# EAGLE library part TUSB7340RKMR (library ds_ic_peripherals)
SuperSpeed USB 3.0 4–port xHCI host controller
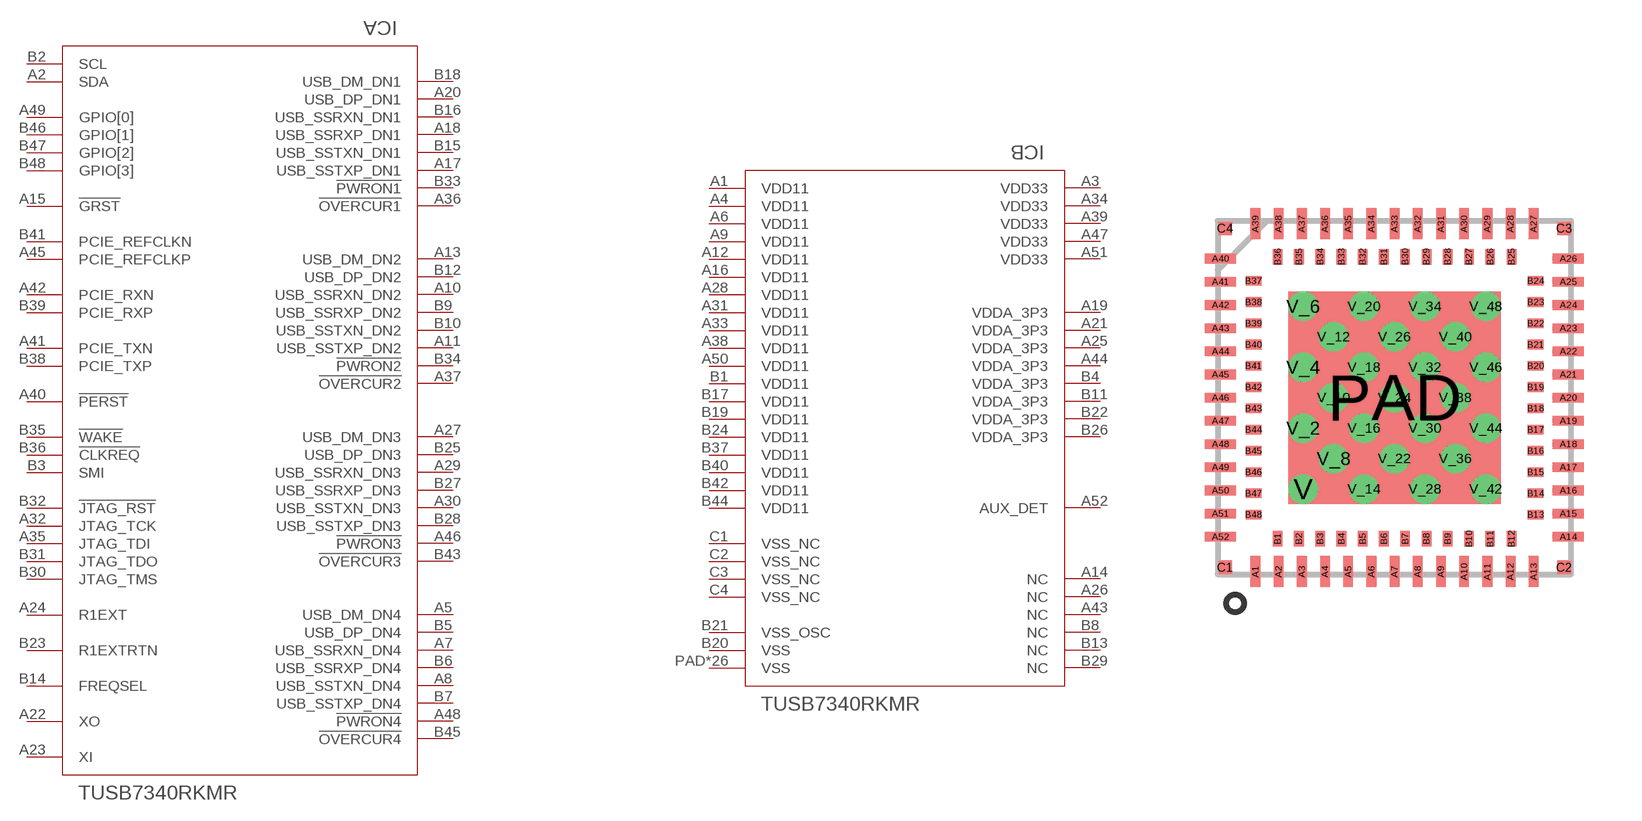
[diagram p70: symbol with the pads of RKM100_5P5X5P5; footprint RKM100_5P5X5P5]

Designator prefix IC; gates A=TUSB7340 B=TUSB7340_PWR

## TUSB7340RKMR (DESCRIPTION: HostController WQFN-100-MR(9x9) USB Converters ROHS; LCSC_PART: C6567238)  [RKM100_5P5X5P5]
A1  B:VDD11  pwr
A2  A:SDA
A3  B:VDD33  pwr
A4  B:VDD11  pwr
A5  A:USB_DM_DN4
A6  B:VDD11  pwr
A7  A:USB_SSRXN_DN4  in
A8  A:USB_SSTXN_DN4  out
A9  B:VDD11  pwr
A10  A:USB_SSRXN_DN2  in
A11  A:USB_SSTXP_DN2  out
A12  B:VDD11  pwr
A13  A:USB_DM_DN2
A14  B:NC  nc
A15  A:!GRST  in
A16  B:VDD11  pwr
A17  A:USB_SSTXP_DN1  out
A18  A:USB_SSRXP_DN1  in
A19  B:VDDA_3P3  pwr
A20  A:USB_DP_DN1
A21  B:VDDA_3P3  pwr
A22  A:XO  out
A23  A:XI  in
A24  A:R1EXT
A25  B:VDDA_3P3  pwr
A26  B:NC  nc
A27  A:USB_DM_DN3
A28  B:VDD11  pwr
A29  A:USB_SSRXN_DN3  in
A30  A:USB_SSTXN_DN3  out
A31  B:VDD11  pwr
A32  A:JTAG_TCK  in
A33  B:VDD11  pwr
A34  B:VDD33  pwr
A35  A:JTAG_TDI  in
A36  A:!OVERCUR1  in
A37  A:!OVERCUR2  in
A38  B:VDD11  pwr
A39  B:VDD33  pwr
A40  A:!PERST  in
A41  A:PCIE_TXN  out
A42  A:PCIE_RXN  in
A43  B:NC  nc
A44  B:VDDA_3P3  pwr
A45  A:PCIE_REFCLKP  in
A46  A:!PWRON3  out
A47  B:VDD33  pwr
A48  A:!PWRON4  out
A49  A:GPIO[0]
A50  B:VDD11  pwr
A51  B:VDD33  pwr
A52  B:AUX_DET  in
B1  B:VDD11  pwr
B2  A:SCL
B3  A:SMI  out
B4  B:VDDA_3P3  pwr
B5  A:USB_DP_DN4
B6  A:USB_SSRXP_DN4  in
B7  A:USB_SSTXP_DN4  out
B8  B:NC  nc
B9  A:USB_SSRXP_DN2  in
B10  A:USB_SSTXN_DN2  out
B11  B:VDDA_3P3  pwr
B12  A:USB_DP_DN2
B13  B:NC  nc
B14  A:FREQSEL  in
B15  A:USB_SSTXN_DN1  out
B16  A:USB_SSRXN_DN1  in
B17  B:VDD11  pwr
B18  A:USB_DM_DN1
B19  B:VDD11  pwr
B20  B:VSS  pwr
B21  B:VSS_OSC  pwr
B22  B:VDDA_3P3  pwr
B23  A:R1EXTRTN
B24  B:VDD11  pwr
B25  A:USB_DP_DN3
B26  B:VDDA_3P3  pwr
B27  A:USB_SSRXP_DN3  in
B28  A:USB_SSTXP_DN3  out
B29  B:NC  nc
B30  A:JTAG_TMS  in
B31  A:JTAG_TDO  out
B32  A:!JTAG_RST  in
B33  A:!PWRON1  out
B34  A:!PWRON2  out
B35  A:!WAKE  out
B36  A:!CLKREQ  out
B37  B:VDD11  pwr
B38  A:PCIE_TXP  out
B39  A:PCIE_RXP  in
B40  B:VDD11  pwr
B41  A:PCIE_REFCLKN  in
B42  B:VDD11  pwr
B43  A:!OVERCUR3  in
B44  B:VDD11  pwr
B45  A:!OVERCUR4  in
B46  A:GPIO[1]
B47  A:GPIO[2]
B48  A:GPIO[3]
C1  B:VSS_NC  pwr
C2  B:VSS_NC  pwr
C3  B:VSS_NC  pwr
C4  B:VSS_NC  pwr
PAD  B:VSS  pwr
V  B:VSS  pwr
V_2  B:VSS  pwr
V_4  B:VSS  pwr
V_6  B:VSS  pwr
V_8  B:VSS  pwr
V_10  B:VSS  pwr
V_12  B:VSS  pwr
V_14  B:VSS  pwr
V_16  B:VSS  pwr
V_18  B:VSS  pwr
V_20  B:VSS  pwr
V_22  B:VSS  pwr
V_24  B:VSS  pwr
V_26  B:VSS  pwr
V_28  B:VSS  pwr
V_30  B:VSS  pwr
V_32  B:VSS  pwr
V_34  B:VSS  pwr
V_36  B:VSS  pwr
V_38  B:VSS  pwr
V_40  B:VSS  pwr
V_42  B:VSS  pwr
V_44  B:VSS  pwr
V_46  B:VSS  pwr
V_48  B:VSS  pwr

## Footprint RKM100_5P5X5P5 (pad centres in mm)
smd 0.25 x 0.8: A1 -3.6,-4.5; A2 -3,-4.5; A3 -2.4,-4.5; A4 -1.8,-4.5; A5 -1.2,-4.5; A6 -0.6,-4.5; A7 0,-4.5; A8 0.6,-4.5; A9 1.2,-4.5; A10 1.8,-4.5; A11 2.4,-4.5; A12 3,-4.5; A13 3.6,-4.5; A27 3.6,4.5; A28 3,4.5; A29 2.4,4.5; A30 1.8,4.5; A31 1.2,4.5; A32 0.6,4.5; A33 0,4.5; A34 -0.6,4.5; A35 -1.2,4.5; A36 -1.8,4.5; A37 -2.4,4.5; A38 -3,4.5; A39 -3.6,4.5
smd 0.8 x 0.25: A14 4.5,-3.6; A15 4.5,-3; A16 4.5,-2.4; A17 4.5,-1.8; A18 4.5,-1.2; A19 4.5,-0.6; A20 4.5,0; A21 4.5,0.6; A22 4.5,1.2; A23 4.5,1.8; A24 4.5,2.4; A25 4.5,3; A26 4.5,3.6; A40 -4.5,3.6; A41 -4.5,3; A42 -4.5,2.4; A43 -4.5,1.8; A44 -4.5,1.2; A45 -4.5,0.6; A46 -4.5,0; A47 -4.5,-0.6; A48 -4.5,-1.2; A49 -4.5,-1.8; A50 -4.5,-2.4; A51 -4.5,-3; A52 -4.5,-3.6
smd 0.25 x 0.4: B1 -3.025,-3.65; B2 -2.475,-3.65; B3 -1.925,-3.65; B4 -1.375,-3.65; B5 -0.825,-3.65; B6 -0.275,-3.65; B7 0.275,-3.65; B8 0.825,-3.65; B9 1.375,-3.65; B10 1.925,-3.65; B11 2.475,-3.65; B12 3.025,-3.65; B25 3.025,3.65; B26 2.475,3.65; B27 1.925,3.65; B28 1.375,3.65; B29 0.825,3.65; B30 0.275,3.65; B31 -0.275,3.65; B32 -0.825,3.65; B33 -1.375,3.65; B34 -1.925,3.65; B35 -2.475,3.65; B36 -3.025,3.65
smd 0.4 x 0.25: B13 3.65,-3.025; B14 3.65,-2.475; B15 3.65,-1.925; B16 3.65,-1.375; B17 3.65,-0.825; B18 3.65,-0.275; B19 3.65,0.275; B20 3.65,0.825; B21 3.65,1.375; B22 3.65,1.925; B23 3.65,2.475; B24 3.65,3.025; B37 -3.65,3.025; B38 -3.65,2.475; B39 -3.65,1.925; B40 -3.65,1.375; B41 -3.65,0.825; B42 -3.65,0.275; B43 -3.65,-0.275; B44 -3.65,-0.825; B45 -3.65,-1.375; B46 -3.65,-1.925; B47 -3.65,-2.475; B48 -3.65,-3.025
smd 0.35 x 0.35: C1 -4.387,-4.387; C2 4.387,-4.387; C3 4.387,4.387; C4 -4.387,4.387
smd 5.5 x 5.5: PAD 0,0
drill 0.254 pad 0.508: V -2.362,-2.362; V_2 -2.362,-0.787; V_4 -2.362,0.787; V_6 -2.362,2.362; V_8 -1.575,-1.575; V_10 -1.575,0; V_12 -1.575,1.575; V_14 -0.787,-2.362; V_16 -0.787,-0.787; V_18 -0.787,0.787; V_20 -0.787,2.362; V_22 0,-1.575; V_24 0,0; V_26 0,1.575; V_28 0.787,-2.362; V_30 0.787,-0.787; V_32 0.787,0.787; V_34 0.787,2.362; V_36 1.575,-1.575; V_38 1.575,0; V_40 1.575,1.575; V_42 2.362,-2.362; V_44 2.362,-0.787; V_46 2.362,0.787; V_48 2.362,2.362